# EAGLE library part AMI601 (library booz)
Motion Sensor 3 Qxis Magnetometer qnd 3 axis accelerometer
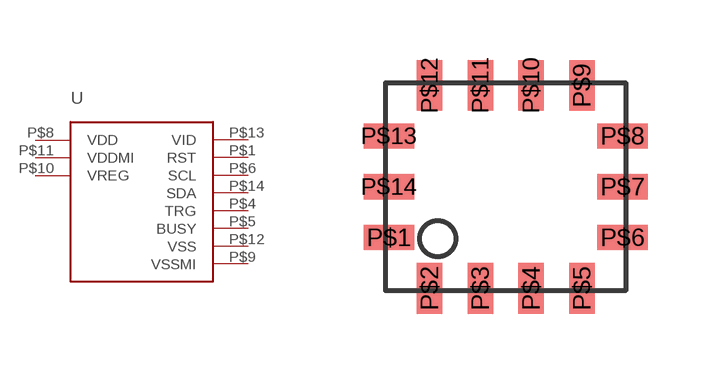
[diagram p3: symbol with the pads of AMI601; footprint AMI601]

Designator prefix -

## AMI601  [AMI601]
P$1  RST
P$4  TRG
P$5  BUSY
P$6  SCL
P$8  VDD
P$9  VSSMI
P$10  VREG
P$11  VDDMI
P$12  VSS
P$13  VID
P$14  SDA

## Footprint AMI601 (pad centres in mm)
smd 1.27 x 0.635: P$1 -2.921,-1.27; P$6 2.921,-1.27; P$7 2.921,0; P$8 2.921,1.27; P$13 -2.921,1.27; P$14 -2.921,0
smd 0.635 x 1.27: P$2 -1.905,-2.54; P$3 -0.635,-2.54; P$4 0.635,-2.54; P$5 1.905,-2.54; P$9 1.905,2.54; P$10 0.635,2.54; P$11 -0.635,2.54; P$12 -1.905,2.54